# Altium schematic symbol library CONN_8X2_HEADER_2.54.SchLib: 1 symbol
Pins are listed as number, name and electrical type; pins without a type are passive.

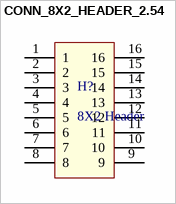
[diagram p0: symbol CONN_8X2_HEADER_2.54]

## CONN_8X2_HEADER_2.54
designator H?, comment 8X2 Header
8X2 Header 2.54mm; Supplier 1: Digi-Key; Supplier Part Number 1: 10129381-916001BLF-ND
footprint CONN_8X2_HEADER_2.54
pins: 1, 2, 3, 4, 5, 6, 7, 8, 9, 10, 11, 12, 13, 14, 15, 16